# Altium schematic symbol library UserSchlib.SchLib: 14 symbols
Pins are listed as number, name and electrical type; pins without a type are passive.

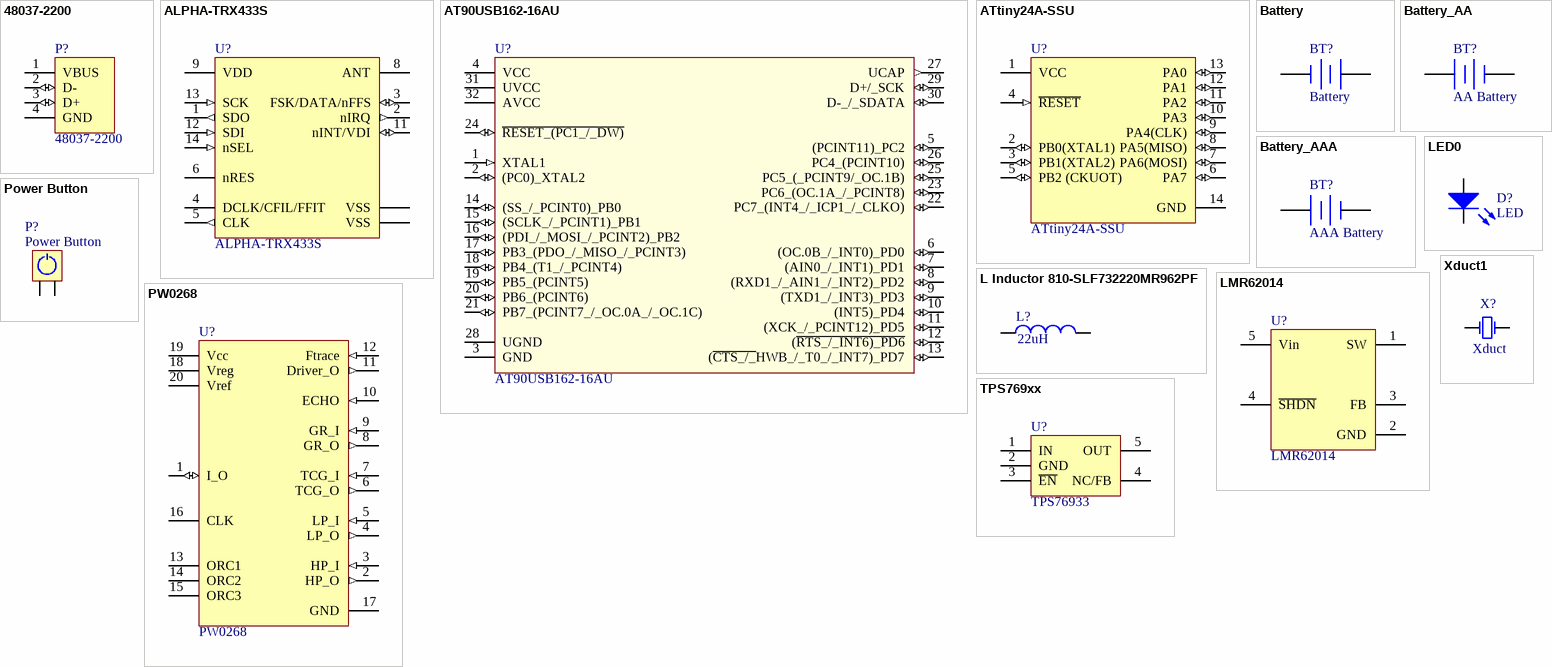
[diagram p0: symbols 48037-2200 to Xduct1]

## 48037-2200
designator P?
SOCKET, USB, PCB, R/A, TYPE A; Manufacturer: MOLEX; Manufacturer Part Number: 48037-2200; Supplier Part Number 1: 2313729; Supplier 1: Farnell; Data Sheet: http://www.farnell.com/cad/1701284.pdf
footprint MOLEX 48037-2200
pins: 1 VBUS (power) "Power", 2 D- (io) "-DATA", 3 D+ (io) "+DATA", 4 GND (power) "Ground"

## ALPHA-TRX433S
designator U?
RF SOLUTIONS  ALPHA-TRX433S  RF MODULE, TRANSCEIVER, FSK, 433MHZ; Manufacturer Part Number: ALPHA-TRX433S; Manufacturer: RF SOLUTIONS; Supplier 1: Farnell; Supplier Part Number 1: 1718689; Data Sheet: http://www.farnell.com/datasheets/1718776.pdf
footprint ALPHA-TRX (ALPHA RF MODULES)
pins: 1 SDO (out), 2 nIRQ (out), 3 FSK/DATA/nFFS (io), 4 DCLK/CFIL/FFIT, 5 CLK (out), 6 nRES, 7 VSS (power), 8 ANT, 9 VDD (power), 10 VSS (power), 11 nINT/VDI (io), 12 SDI (in), 13 SCK (in), 14 nSEL (in)

## AT90USB162-16AU
designator U?
Value: *
footprint QFP80P900X900X120-32N
pins: 1 XTAL1 (in), 2 (PC0)_XTAL2 (io), 3 GND, 4 VCC (power), 5 (PCINT11)_PC2 (io), 6 (OC.0B_/_INT0)_PD0 (io), 7 (AIN0_/_INT1)_PD1 (io), 8 (RXD1_/_AIN1_/_INT2)_PD2 (io), 9 (TXD1_/_INT3)_PD3 (io), 10 (INT5)_PD4 (io), 11 (XCK_/_PCINT12)_PD5 (io), 12 (~{RTS_/_INT6)_PD6} (io), 13 (~{CTS_/_}HWB_/_T0_/_INT7)_PD7 (io), 14 (SS_/_PCINT0)_PB0 (io), 15 (SCLK_/_PCINT1)_PB1 (io), 16 (PDI_/_MOSI_/_PCINT2)_PB2 (io), 17 PB3_(PDO_/_MISO_/_PCINT3) (io), 18 PB4_(T1_/_PCINT4) (io), 19 PB5_(PCINT5) (io), 20 PB6_(PCINT6) (io), 21 PB7_(PCINT7_/_OC.0A_/_OC.1C) (io), 22 PC7_(INT4_/_ICP1_/_CLKO) (io), 23 PC6_(OC.1A_/_PCINT8) (io), 24 ~{RESET_(PC1_/_DW)} (io), 25 PC5_(_PCINT9/_OC.1B) (io), 26 PC4_(PCINT10) (io), 27 UCAP (out), 28 UGND, 29 D+/_SCK (io), 30 D-_/_SDATA (io), 31 UVCC (power), 32 AVCC (power)

## ATtiny24A-SSU
designator U?
Manufacturer: Atmel; Manufacturer Part Number: ATtiny24A-SSU; Supplier Part Number 1: 1699395; Supplier 1: Farnell; Data Sheet: http://www.farnell.com/datasheets/332546.pdf
footprint SOIC14T_L (14-Pin Small Outline Integrated Circuit 1.27 mm Pitch, IPC High Density)
pins: 1 VCC (power), 2 PB0(XTAL1) (io), 3 PB1(XTAL2) (io), 4 ~{RESET} (in), 5 PB2 (CKUOT) (io), 6 PA7 (io), 7 PA6(MOSI) (io), 8 PA5(MISO) (io), 9 PA4(CLK) (io), 10 PA3 (io), 11 PA2 (io), 12 PA1 (io), 13 PA0 (io), 14 GND (power)

## Battery
designator BT?
Multicell Battery
footprint AAA Battery Holder
pins: 1 +, 2 -

## Battery_AA
designator BT?, comment AA Battery
Battery AA; Manufacturer: KEYSTONE; Manufacturer Part Number: 53; Supplier Part Number 1: 2293266; Data Sheet: http://www.farnell.com/datasheets/1703982.pdf; Supplier 1: Farnell
footprint BATTERY_AA_CLIP (KEYSTONE 53 BATTERY CLIP, A/AA, THT)
pins: 1 +, 2 -

## Battery_AAA
designator BT?, comment AAA Battery
Battery AAA; Manufacturer: KEYSTONE; Manufacturer Part Number: 55; Supplier Part Number 1: 1702644; Data Sheet: http://www.farnell.com/datasheets/1703982.pdf; Supplier 1: Farnell
footprint Keystone 55 AAA CLIP (KEYSTONE 55 BATTERY CLIP AAA)
pins: 1 +, 2 -

## L Inductor 810-SLF732220MR962PF
designator L?, comment 22uH
Inductor; Manufacturer Part Number: 810-SLF732220MR962PF; Manufacturer: TDK; Data Sheet: http://www.mouser.com/catalog/specsheets/tdk_e531_slf.pdf; Supplier Part Number 1: 810-SLF732220MR962PF; Supplier 1: Mouser
footprint INDM7070x32N (Inductor 7x7x3.2mm)
pins: 1, 2

## LED0
designator D?, comment LED
Typical INFRARED GaAs LED; Published: 8-Jun-2000; LatestRevisionDate: 08-Jul-2005; LatestRevisionNote: Mech Layer 1 removed.; PackageReference: LED-0; Publisher: Altium Limited
footprint LED 3mm DIP
pins: 1 A, 2 K

## LMR62014
designator U?
2064695; Manufacturer Part Number: LMR62014XMFE; Manufacturer: TEXAS INSTRUMENTS; Supplier Part Number 1: 2064695; Supplier 1: Farnell; Data Sheet: http://www.ti.com/lit/ds/symlink/lmr62014.pdf
footprint SOT23-5AM (SOT23, 5-Leads, Body 2.9x1.7mm, Pitch 0.95mm, Lead Span 2.8mm, IPC Low Density)
pins: 1 SW, 2 GND, 3 FB, 4 ~{SHDN}, 5 Vin

## Power Button
designator P?
Header, 2-Pin, Right Angle; LatestRevisionDate: 17-Jul-2002; LatestRevisionNote: Re-released for DXP Platform.; Publisher: Altium Limited
footprint HDR1X2 (Connector; Header; 2 Position)
pins: 1, 2

## PW0268
designator U?
Manufacturer: PROWAVE; Manufacturer Part Number: PW0268; Supplier Part Number 1: 1007371; Supplier 1: Farnell; Data Sheet: http://www.farnell.com/datasheets/1714673.pdf
footprint QSSOP20_0.635/4.0X8.7
pins: 1 I_O (io), 2 HP_O (out), 3 HP_I (in), 4 LP_O (out), 5 LP_I (in), 6 TCG_O (out), 7 TCG_I (in), 8 GR_O (out), 9 GR_I (in), 10 ECHO (in), 11 Driver_O (out), 12 Ftrace (in), 13 ORC1, 14 ORC2, 15 ORC3, 16 CLK, 17 GND (power), 18 Vreg (power), 19 Vcc (power), 20 Vref (power)

## TPS769xx
designator U?, comment TPS76933
ULTRALOW-POWER 100-mA LOW-DROPOUT LINEAR REGULATORS; Manufacturer Part Number: TPS76933DBVT; Manufacturer: TEXAS INSTRUMENTS; Supplier Part Number 1: 8461538; Supplier 1: Farnell; Data Sheet: http://www.farnell.com/datasheets/1882401.pdf
footprint SOT23-5AM (SOT23, 5-Leads, Body 2.9x1.7mm, Pitch 0.95mm, Lead Span 2.8mm, IPC Low Density)
pins: 1 IN (power), 2 GND (power), 3 ~{EN} (power), 4 NC/FB (power), 5 OUT (power)

## Xduct1
designator X?, comment Xduct
Transducer
footprint Xducts1 (400ST/R120)
pins: 1, 2